# EAGLE library part IN8-LED (library bodger)
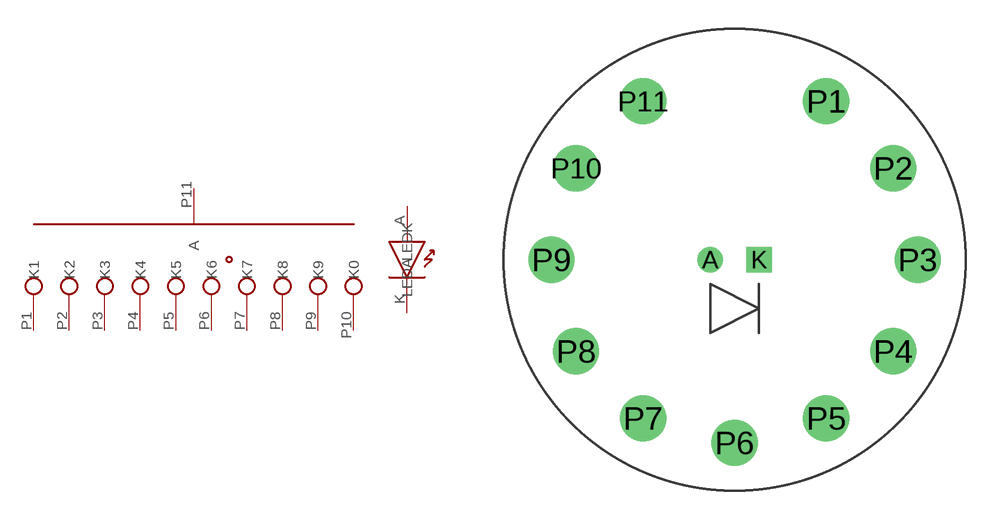
[diagram p51: symbol with the pads of IN8-DPINS-LED; footprint IN8-DPINS-LED]

Designator prefix -

## IN8-LED  [IN8-DPINS-LED]
A  LEDA
K  LEDK
P1  K1
P2  K2
P3  K3
P4  K4
P5  K5
P6  K6
P7  K7
P8  K8
P9  K9
P10  K0
P11  A

## Footprint IN8-DPINS-LED (pad centres in mm)
IN-8 socket using D-shell pins with LED
drill 0.8: A -1.27,0
drill 0.8 square: K 1.27,0
drill 1.6: P1 4.75,8.227; P2 8.227,4.75; P3 9.5,0; P4 8.227,-4.75; P5 4.75,-8.227; P6 0,-9.5; P7 -4.75,-8.227; P8 -8.227,-4.75; P9 -9.5,0; P10 -8.227,4.75; P11 -4.75,8.227